# Altium schematic symbol library Analog.SchLib: 16 symbols
Pins are listed as number, name and electrical type; pins without a type are passive.

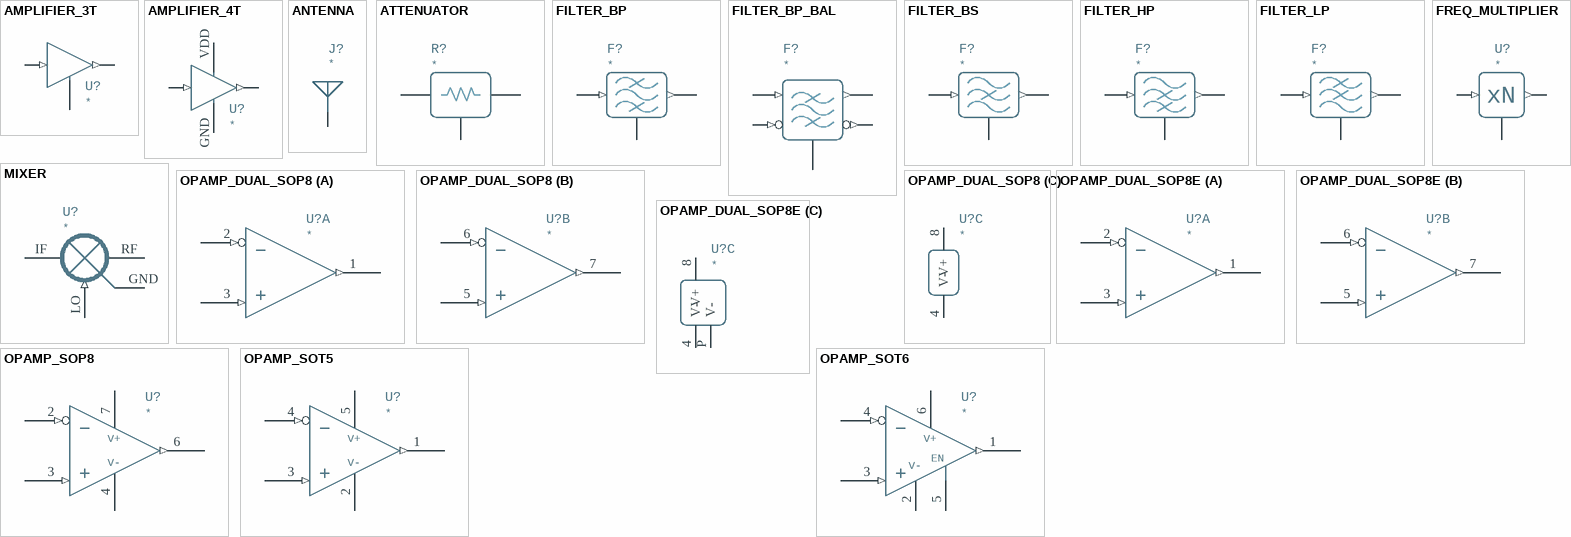
[diagram p0: symbols AMPLIFIER_3T to OPAMP_SOT6]

## AMPLIFIER_3T
designator U?
pins: GND, IN (in), OUT (out)

## AMPLIFIER_4T
designator U?
pins: GND, IN (in), OUT (out), VDD

## ANTENNA
designator J?
pins: 1

## ATTENUATOR
designator R?
pins: 1, 2, GND

## FILTER_BP
designator F?
pins: GND, IN (in), OUT (out)

## FILTER_BP_BAL
designator F?
pins: GND, IN+ (in), IN- (in), OUT+ (out), OUT- (out)

## FILTER_BS
designator F?
pins: GND, IN (in), OUT (out)

## FILTER_HP
designator F?
pins: GND, IN (in), OUT (out)

## FILTER_LP
designator F?
pins: GND, IN (in), OUT (out)

## FREQ_MULTIPLIER
designator U?
pins: GND, IN (in), OUT (out)
text: xN

## MIXER
designator U?
pins: GND, IF, LO (in), RF

## OPAMP_DUAL_SOP8
designator U?
part A pins: 1 OUT (out), 2 - (in), 3 + (in)
part B pins: 5 + (in), 6 - (in), 7 OUT (out)
part C pins: 4 V-, 8 V+

## OPAMP_DUAL_SOP8E
designator U?
part A pins: 1 OUT (out), 2 - (in), 3 + (in)
part B pins: 5 + (in), 6 - (in), 7 OUT (out)
part C pins: 4 V-, 8 V+, P V-

## OPAMP_SOP8
designator U?
pins: 2 - (in), 3 + (in), 4 V-, 6 OUT (out), 7 V+

## OPAMP_SOT5
designator U?
pins: 1 OUT (out), 2 V-, 3 + (in), 4 - (in), 5 V+

## OPAMP_SOT6
designator U?
pins: 1 OUT (out), 2 V-, 3 + (in), 4 - (in), 5 EN, 6 V+